# Altium schematic symbol library SSW-102-01-X-S.SchLib: 1 symbol
Pins are listed as number, name and electrical type; pins without a type are passive.

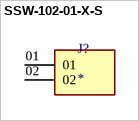
[diagram p0: symbol SSW-102-01-X-S]

## SSW-102-01-X-S
designator J?
2 Position Receptacle Connector Through Hole; MP: SSW-102-01-G-S; MF: Samtec; Purchase-URL: https://pricing.snapeda.com/search/part/SSW-102-01-G-S/?ref=eda; Price: None; SnapEDA_Link: https://www.snapeda.com/parts/SSW-102-01-G-S/Samtec/view-part/4872079/?ref=snap; Check_prices: https://www.snapeda.com/parts/SSW-102-01-G-S/Samtec/view-part/4872079/?ref=eda; Package: None; Availability: Good; Value: *
footprint Model Name (Footprint not found)
pins: 01, 02